# Altium footprint library TestPoint.PcbLib: 8 footprints
Each footprint in its own frame and in the unit in brackets; x right, y up, seen from the top. Pads: shape width x height; smd on the part's side, far side on the other; paste and mask are expansions set on the pad; w line width, h text height; cw(c..) or ccw(c..) is an arc to the next point about the centre after c.
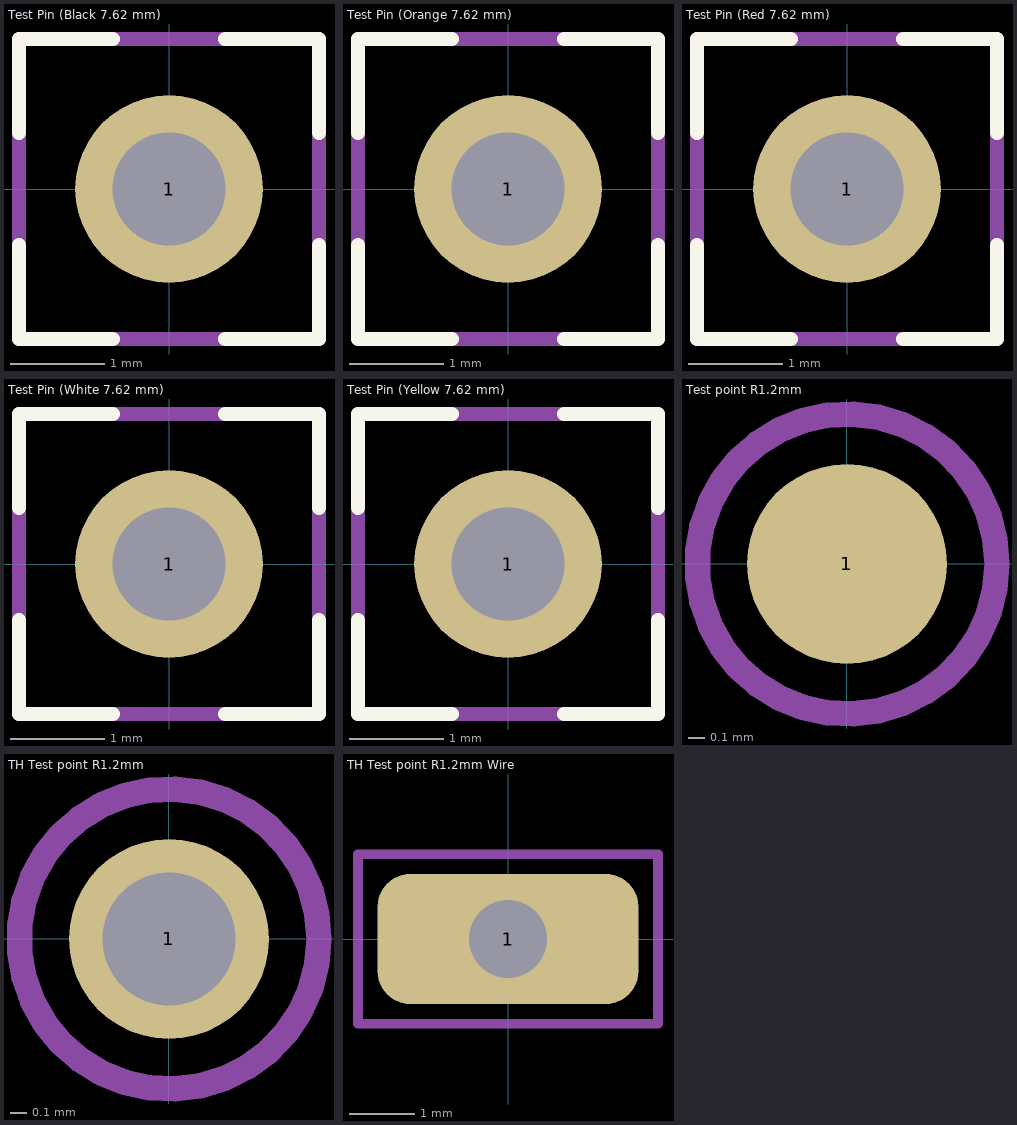
[diagram p0: the footprints below, top view; thin cyan lines are the x and y axes]

## Test Pin (Black 7.62 mm) [mm]
pads (1):
  round 2 hole 1.2: 1(0,0)
Top Overlay:
  lines w0.153: -1.6,-0.6 -1.6,-1.6 -0.6,-1.6 ; -1.6,0.6 -1.6,1.6 -0.6,1.6 ; 0.6,-1.6 1.6,-1.6 1.6,-0.6 ; 0.6,1.6 1.6,1.6 1.6,0.6
Top Assembly:
  circle w0.1: c0,0 r0.8
  text "'.Designator'" at -4.532,-0.333 h0.8
Top Courtyard:
  lines w0.153: -0.3,0 0.3,0 ; 0,-0.3 0,0.3 ; -1.6,-1.6 -1.6,1.6 1.6,1.6 1.6,-1.6 -1.6,-1.6
3D body "5001--3DModel-STEP-630548.STEP": height 4.57, standoff -3.05, extent -1.27,-1.27 1.27,1.27

## Test Pin (Orange 7.62 mm) [mm]
pads (1):
  round 2 hole 1.2: 1(0,0)
Top Overlay:
  lines w0.153: -1.6,-0.6 -1.6,-1.6 -0.6,-1.6 ; -1.6,0.6 -1.6,1.6 -0.6,1.6 ; 0.6,-1.6 1.6,-1.6 1.6,-0.6 ; 0.6,1.6 1.6,1.6 1.6,0.6
Top Assembly:
  circle w0.1: c0,0 r0.8
  text "'.Designator'" at -4.532,-0.333 h0.8
Top Courtyard:
  lines w0.153: -0.3,0 0.3,0 ; 0,-0.3 0,0.3 ; -1.6,-1.6 -1.6,1.6 1.6,1.6 1.6,-1.6 -1.6,-1.6
3D body "5003--3DModel-STEP-630548.STEP": height 4.57, standoff -3.05, extent -1.27,-1.27 1.27,1.27

## Test Pin (Red 7.62 mm) [mm]
pads (1):
  round 2 hole 1.2: 1(0,0)
Top Overlay:
  lines w0.153: -1.6,-0.6 -1.6,-1.6 -0.6,-1.6 ; -1.6,0.6 -1.6,1.6 -0.6,1.6 ; 0.6,-1.6 1.6,-1.6 1.6,-0.6 ; 0.6,1.6 1.6,1.6 1.6,0.6
Top Assembly:
  circle w0.1: c0,0 r0.8
  text "'.Designator'" at -4.532,-0.333 h0.8
Top Courtyard:
  lines w0.153: -0.3,0 0.3,0 ; 0,-0.3 0,0.3 ; -1.6,-1.6 -1.6,1.6 1.6,1.6 1.6,-1.6 -1.6,-1.6
3D body "5000--3DModel-STEP-630548.STEP": height 4.57, standoff -3.05, extent -1.27,-1.27 1.27,1.27

## Test Pin (White 7.62 mm) [mm]
pads (1):
  round 2 hole 1.2: 1(0,0)
Top Overlay:
  lines w0.153: -1.6,-0.6 -1.6,-1.6 -0.6,-1.6 ; -1.6,0.6 -1.6,1.6 -0.6,1.6 ; 0.6,-1.6 1.6,-1.6 1.6,-0.6 ; 0.6,1.6 1.6,1.6 1.6,0.6
Top Assembly:
  circle w0.1: c0,0 r0.8
  text "'.Designator'" at -4.532,-0.333 h0.8
Top Courtyard:
  lines w0.153: -0.3,0 0.3,0 ; 0,-0.3 0,0.3 ; -1.6,-1.6 1.6,-1.6 1.6,1.6 -1.6,1.6 -1.6,-1.6
3D body "5002.STEP": height 4.57, standoff -3.05, extent -1.27,-1.27 1.27,1.27

## Test Pin (Yellow 7.62 mm) [mm]
pads (1):
  round 2 hole 1.2: 1(0,0)
Top Overlay:
  lines w0.153: -1.6,-0.6 -1.6,-1.6 -0.6,-1.6 ; -1.6,0.6 -1.6,1.6 -0.6,1.6 ; 0.6,-1.6 1.6,-1.6 1.6,-0.6 ; 0.6,1.6 1.6,1.6 1.6,0.6
Top Assembly:
  circle w0.1: c0,0 r0.8
  text "'.Designator'" at -4.532,-0.333 h0.8
Top Courtyard:
  lines w0.153: -0.3,0 0.3,0 ; 0,-0.3 0,0.3 ; -1.6,-1.6 1.6,-1.6 1.6,1.6 -1.6,1.6 -1.6,-1.6
3D body "5004--3DModel-STEP-630548.STEP": height 4.57, standoff -3.05, extent -1.27,-1.27 1.27,1.27

## Test point R1.2mm [mm]
pads (1):
  round 1.2 smd paste-1: 1(0,0)
Top Courtyard:
  circle w0.153: c0,0 r0.9
  lines w0.153: -0.3,0 0.3,0 ; 0,-0.3 0,0.3

## TH Test point R1.2mm [mm]
pads (1):
  round 1.2 hole 0.8 paste-2539.97: 1(0,0)
Top Courtyard:
  circle w0.153: c0,0 r0.9
  lines w0.153: -0.3,0 0.3,0 ; 0,-0.3 0,0.3

## TH Test point R1.2mm Wire [mm]
pads (1):
  rrect50% 4x2 hole 1.2 paste-2539.97: 1(0,0)
Top Courtyard:
  lines w0.15: -2.3,-1.3 2.3,-1.3 2.3,1.3 -2.3,1.3 -2.3,-1.3
  lines w0.153: -0.3,0 0.3,0 ; 0,-0.3 0,0.3